# EAGLE library part STM32F405?GT6 (library STM32F40X)
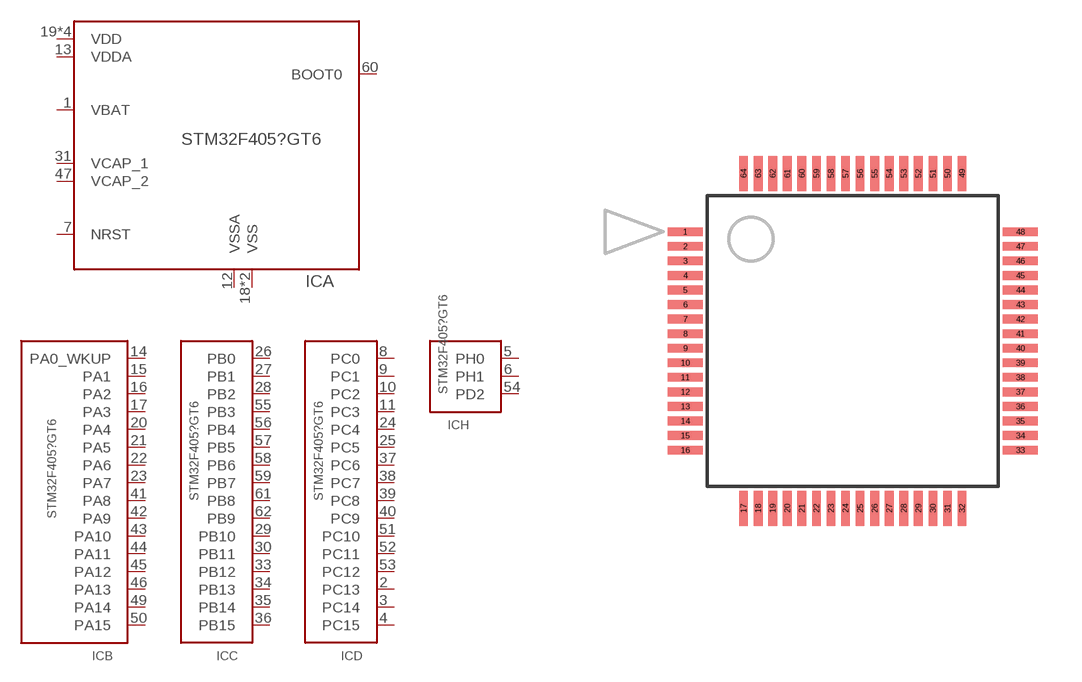
[diagram p0: symbol with the pads of QFP64-10X10-0.5; footprint QFP64-10X10-0.5]

Designator prefix IC; gates B=BANK-A C=BANK-B D=BANK-C H=BANK-H A=STM32F40XXX-PWR-MISC

## STM32F405RGT6 (MF: TI; MPN: STM32F405RGT6)  [QFP64-10X10-0.5]
1  A:VBAT
2  D:PC13
3  D:PC14
4  D:PC15
5  H:PH0
6  H:PH1
7  A:NRST
8  D:PC0
9  D:PC1
10  D:PC2
11  D:PC3
12  A:VSSA
13  A:VDDA
14  B:PA0_WKUP
15  B:PA1
16  B:PA2
17  B:PA3
18  A:VSS
19  A:VDD
20  B:PA4
21  B:PA5
22  B:PA6
23  B:PA7
24  D:PC4
25  D:PC5
26  C:PB0
27  C:PB1
28  C:PB2
29  C:PB10
30  C:PB11
31  A:VCAP_1
32  A:VDD
33  C:PB12
34  C:PB13
35  C:PB14
36  C:PB15
37  D:PC6
38  D:PC7
39  D:PC8
40  D:PC9
41  B:PA8
42  B:PA9
43  B:PA10
44  B:PA11
45  B:PA12
46  B:PA13
47  A:VCAP_2
48  A:VDD
49  B:PA14
50  B:PA15
51  D:PC10
52  D:PC11
53  D:PC12
54  H:PD2
55  C:PB3
56  C:PB4
57  C:PB5
58  C:PB6
59  C:PB7
60  A:BOOT0
61  C:PB8
62  C:PB9
63  A:VSS
64  A:VDD

## Footprint QFP64-10X10-0.5 (pad centres in mm)
smd 1.2 x 0.3: 1 -5.75,3.75; 2 -5.75,3.25; 3 -5.75,2.75; 4 -5.75,2.25; 5 -5.75,1.75; 6 -5.75,1.25; 7 -5.75,0.75; 8 -5.75,0.25; 9 -5.75,-0.25; 10 -5.75,-0.75; 11 -5.75,-1.25; 12 -5.75,-1.75; 13 -5.75,-2.25; 14 -5.75,-2.75; 15 -5.75,-3.25; 16 -5.75,-3.75; 33 5.75,-3.75; 34 5.75,-3.25; 35 5.75,-2.75; 36 5.75,-2.25; 37 5.75,-1.75; 38 5.75,-1.25; 39 5.75,-0.75; 40 5.75,-0.25; 41 5.75,0.25; 42 5.75,0.75; 43 5.75,1.25; 44 5.75,1.75; 45 5.75,2.25; 46 5.75,2.75; 47 5.75,3.25; 48 5.75,3.75
smd 0.3 x 1.2: 17 -3.75,-5.75; 18 -3.25,-5.75; 19 -2.75,-5.75; 20 -2.25,-5.75; 21 -1.75,-5.75; 22 -1.25,-5.75; 23 -0.75,-5.75; 24 -0.25,-5.75; 25 0.25,-5.75; 26 0.75,-5.75; 27 1.25,-5.75; 28 1.75,-5.75; 29 2.25,-5.75; 30 2.75,-5.75; 31 3.25,-5.75; 32 3.75,-5.75; 49 3.75,5.75; 50 3.25,5.75; 51 2.75,5.75; 52 2.25,5.75; 53 1.75,5.75; 54 1.25,5.75; 55 0.75,5.75; 56 0.25,5.75; 57 -0.25,5.75; 58 -0.75,5.75; 59 -1.25,5.75; 60 -1.75,5.75; 61 -2.25,5.75; 62 -2.75,5.75; 63 -3.25,5.75; 64 -3.75,5.75